# Altium footprint library TC2030-MCP-NL.PcbLib: 1 footprints
Each footprint in its own frame and in the unit in brackets; x right, y up, seen from the top. Pads: shape width x height; smd on the part's side, far side on the other; paste and mask are expansions set on the pad; w line width, h text height; cw(c..) or ccw(c..) is an arc to the next point about the centre after c.
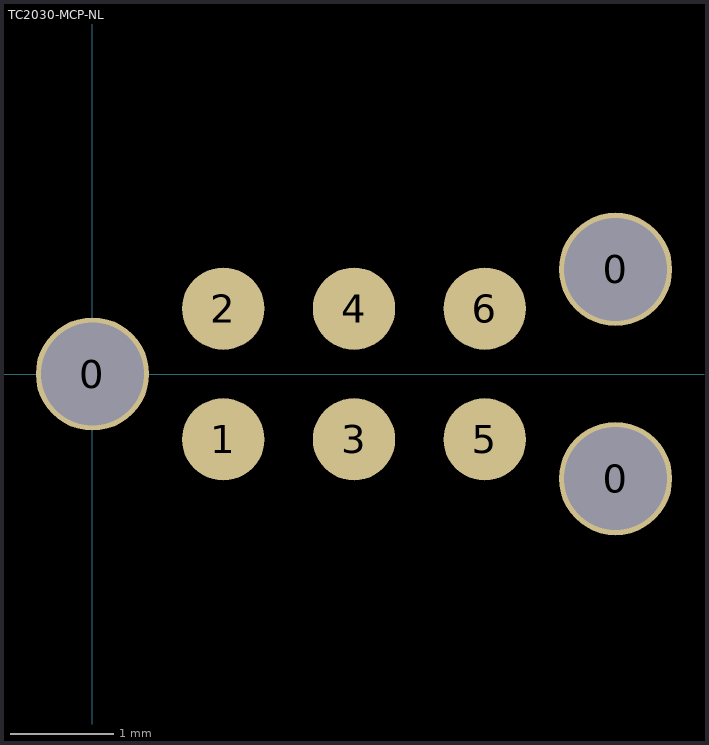
[diagram p0: the footprint, top view; thin cyan lines are the x and y axes]

## TC2030-MCP-NL [mm] "Microchip Headerless ICSP Connector (no clips)"
pads (9):
  round 1.1 hole 1: 0(0,0) 0(5.08,-1.016) 0(5.08,1.016)
  round 0.8 smd: 1(1.27,-0.635) 2(1.27,0.635) 3(2.54,-0.635) 4(2.54,0.635) 5(3.81,-0.635) 6(3.81,0.635)